# Altium schematic symbol library SCH - MCU - ATMEGA - MICROCHIP ATMEGA808-MFR VQFN32.SchLib: 1 symbol
Pins are listed as number, name and electrical type; pins without a type are passive.

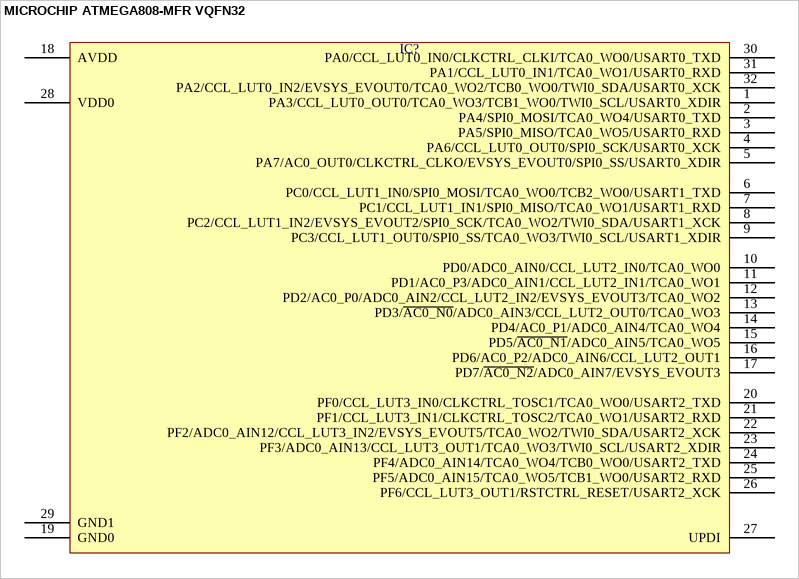
[diagram p0: symbol MICROCHIP ATMEGA808-MFR VQFN32]

## MICROCHIP ATMEGA808-MFR VQFN32
designator IC?  (value not drawn)
pins: 1 PA3/CCL_LUT0_OUT0/TCA0_WO3/TCB1_WO0/TWI0_SCL/USART0_XDIR, 2 PA4/SPI0_MOSI/TCA0_WO4/USART0_TXD, 3 PA5/SPI0_MISO/TCA0_WO5/USART0_RXD, 4 PA6/CCL_LUT0_OUT0/SPI0_SCK/USART0_XCK, 5 PA7/AC0_OUT0/CLKCTRL_CLKO/EVSYS_EVOUT0/SPI0_SS/USART0_XDIR, 6 PC0/CCL_LUT1_IN0/SPI0_MOSI/TCA0_WO0/TCB2_WO0/USART1_TXD, 7 PC1/CCL_LUT1_IN1/SPI0_MISO/TCA0_WO1/USART1_RXD, 8 PC2/CCL_LUT1_IN2/EVSYS_EVOUT2/SPI0_SCK/TCA0_WO2/TWI0_SDA/USART1_XCK, 9 PC3/CCL_LUT1_OUT0/SPI0_SS/TCA0_WO3/TWI0_SCL/USART1_XDIR, 10 PD0/ADC0_AIN0/CCL_LUT2_IN0/TCA0_WO0, 11 PD1/AC0_P3/ADC0_AIN1/CCL_LUT2_IN1/TCA0_WO1, 12 PD2/AC0_P0/ADC0_AIN2/CCL_LUT2_IN2/EVSYS_EVOUT3/TCA0_WO2, 13 PD3/~{AC0_N0}/ADC0_AIN3/CCL_LUT2_OUT0/TCA0_WO3, 14 PD4/AC0_P1/ADC0_AIN4/TCA0_WO4, 15 PD5/~{AC0_N1}/ADC0_AIN5/TCA0_WO5, 16 PD6/AC0_P2/ADC0_AIN6/CCL_LUT2_OUT1, 17 PD7/~{AC0_N2}/ADC0_AIN7/EVSYS_EVOUT3, 18 AVDD, 19 GND0, 20 PF0/CCL_LUT3_IN0/CLKCTRL_TOSC1/TCA0_WO0/USART2_TXD, 21 PF1/CCL_LUT3_IN1/CLKCTRL_TOSC2/TCA0_WO1/USART2_RXD, 22 PF2/ADC0_AIN12/CCL_LUT3_IN2/EVSYS_EVOUT5/TCA0_WO2/TWI0_SDA/USART2_XCK, 23 PF3/ADC0_AIN13/CCL_LUT3_OUT1/TCA0_WO3/TWI0_SCL/USART2_XDIR, 24 PF4/ADC0_AIN14/TCA0_WO4/TCB0_WO0/USART2_TXD, 25 PF5/ADC0_AIN15/TCA0_WO5/TCB1_WO0/USART2_RXD, 26 PF6/CCL_LUT3_OUT1/RSTCTRL_RESET/USART2_XCK, 27 UPDI, 28 VDD0, 29 GND1, 30 PA0/CCL_LUT0_IN0/CLKCTRL_CLKI/TCA0_WO0/USART0_TXD, 31 PA1/CCL_LUT0_IN1/TCA0_WO1/USART0_RXD, 32 PA2/CCL_LUT0_IN2/EVSYS_EVOUT0/TCA0_WO2/TCB0_WO0/TWI0_SDA/USART0_XCK